# Altium schematic symbol library Altium-OPTO.SchLib: 28 symbols
Pins are listed as number, name and electrical type; pins without a type are passive.

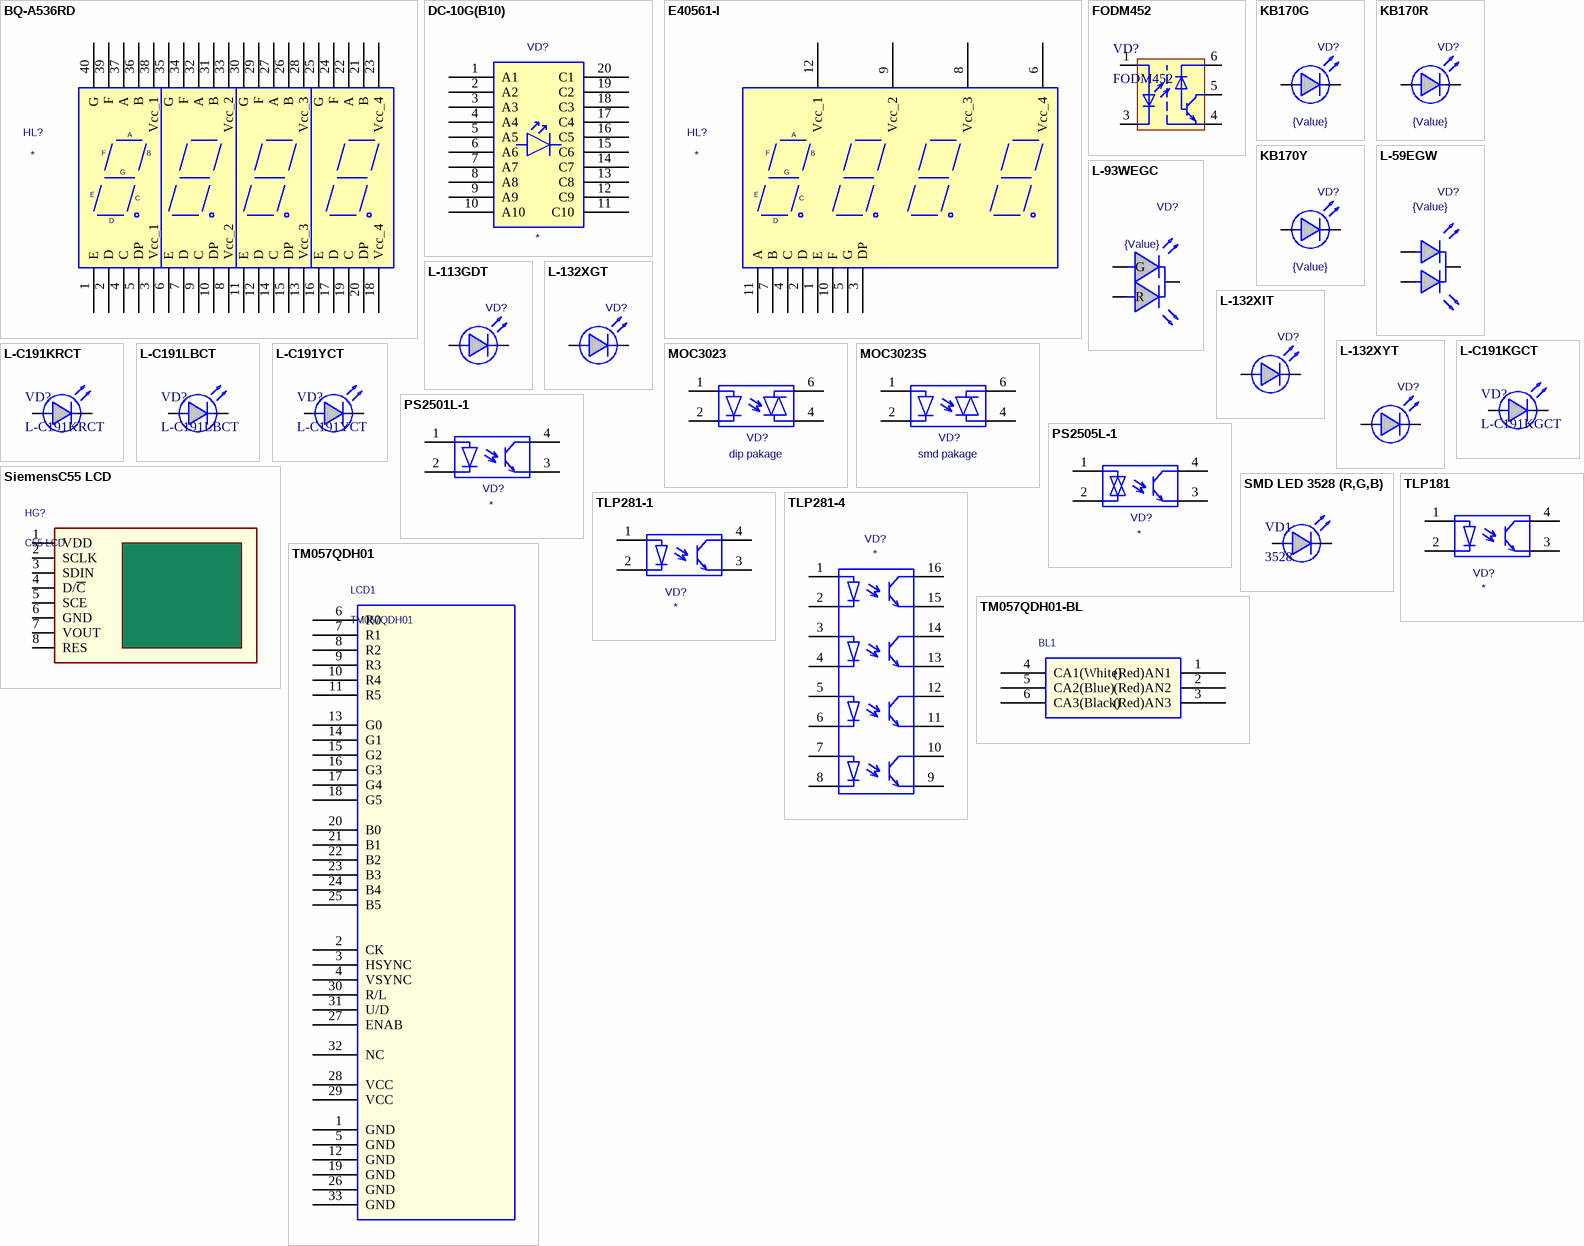
[diagram p0: symbols BQ-A536RD to TM057QDH01-BL]

## BQ-A536RD
designator HL?
4x7SEG Led; Value: *
footprint BQ-A536RD
pins: 1 E, 2 D, 3 Vcc_1, 4 C, 5 DP, 6 E, 7 D, 8 Vcc_2, 9 C, 10 DP, 11 E, 12 D, 13 Vcc_3, 14 C, 15 DP, 16 E, 17 D, 18 Vcc_4, 19 C, 20 DP, 21 B, 22 A, 23 Vcc_4, 24 F, 25 G, 26 B, 27 A, 28 Vcc_3, 29 F, 30 G, 31 B, 32 A, 33 Vcc_2, 34 F, 35 G, 36 B, 37 A, 38 Vcc_1, 39 F, 40 G

## DC-10G(B10)
designator VD?
LED Light bar x10
footprint DC-10LED
pins: 1 A1, 2 A2, 3 A3, 4 A4, 5 A5, 6 A6, 7 A7, 8 A8, 9 A9, 10 A10, 11 C10, 12 C9, 13 C8, 14 C7, 15 C6, 16 C5, 17 C4, 18 C3, 19 C2, 20 C1

## E40561-I
designator HL?
4x7SEG Led, common anode
footprint E40561-I (Footprint not found)
pins: 1 E, 2 D, 3 DP, 4 C, 5 G, 6 Vcc_4, 7 B, 8 Vcc_3, 9 Vcc_2, 10 F, 11 A, 12 Vcc_1

## FODM452
designator VD?
DC Input Hi Speed Optocoupler
footprint MF-5 (5-pin mini flat package)
pins: 1, 3, 4, 5, 6

## KB170G
designator VD?  value {Value}  (hidden comment: *)
Green Led 0805
footprint LED-2012[0805]
pins: 1 K, 2 A

## KB170R
designator VD?  value {Value}  (hidden comment: *)
Red Led 0805
footprint LED-2012[0805]
pins: 1 K, 2 A

## KB170Y
designator VD?  value {Value}  (hidden comment: *)
Yellow Led 0805
footprint LED-2012[0805]
pins: 1 K, 2 A

## L-59EGW
designator VD?  value {Value}  (hidden comment: *)
3-Color Led d=5mm
footprint LED2C-5MM
pins: 1 A, 2 K, 3 A

## L-93WEGC
designator VD?  value {Value}  (hidden comment: *)
3-Color Led d=3mm
footprint LED2C-3MM
pins: 1 R, 2 K, 3 G

## L-113GDT
designator VD?  (value not drawn)
Green Led 2x5mm
footprint LED-113 (2x5mm rectangle)
pins: 1 K, 2 A

## L-132XGT
designator VD?  (value not drawn)
Green Led d=3mm
footprint LED-132
pins: 1 K, 2 A

## L-132XIT
designator VD?  (value not drawn)
Red Led d=3mm
footprint LED-132
pins: 1 K, 2 A

## L-132XYT
designator VD?  (value not drawn)
Yellow Led d=3mm
footprint LED-132
pins: 1 K, 2 A

## L-C191KGCT
designator VD?
0603 Green Led
footprint LED-0603
pins: 1 K, 2 A

## L-C191KRCT
designator VD?
0603 Red Led
footprint LED-0603
pins: 1 K, 2 A

## L-C191LBCT
designator VD?
0603 Blue Led
footprint LED-0603
pins: 1 K, 2 A

## L-C191YCT
designator VD?
0603 Yellow Led
footprint LED-0603
pins: 1 K, 2 A

## MOC3023
designator VD?, comment dip pakage
DC Input Photocoupler
footprint DIP6
pins: 1, 2, 4, 6

## MOC3023S
designator VD?, comment smd pakage
DC Input Photocoupler
footprint DIP6(SM) (Surface Mount)
footprint DIP6(SM) - NT (Surface Mount)
pins: 1, 2, 4, 6

## PS2501L-1
designator VD?
DC Input Photocoupler; Value: *
footprint DIP4(SM) (Footprint not found)
pins: 1, 2, 3, 4

## PS2505L-1
designator VD?
AC Input Photocoupler
footprint DIP4(SM) (Footprint not found)
pins: 1, 2, 3, 4

## SiemensC55 LCD
designator HG?, comment C55 LCD
monochrome LCD display 101x63 dots (SPI interface)
footprint C55 LCD (monochrome LCD display 101x63 dots)
pins: 1 VDD, 2 SCLK, 3 SDIN, 4 D/~{C}, 5 SCE, 6 GND, 7 VOUT, 8 RES

## SMD LED 3528 (R,G,B)
designator VD1, comment 3528
Single SMD 3528 LED
footprint SMD LED 3528 (Single SMD LED 3528)
pins: 1 K, 2 A

## TLP181
designator VD?
DC Input Photocoupler; Value: *
footprint MCF4
pins: 1, 2, 3, 4

## TLP281-1
designator VD?
DC Input Photocoupler; Value: *
footprint SO-G4
pins: 1, 2, 3, 4

## TLP281-4
designator VD?
4x DC Input Photocoupler; Value: *
footprint SO-G16
pins: 1, 2, 3 1, 4 2, 5 1, 6 2, 7 1, 8 2, 9 3, 10 4, 11 3, 12 4, 13 3, 14 4, 15 3, 16 4

## TM057QDH01
designator LCD1
640x480 LCD module, RGB 18bit
footprint FH12-33S-0.5SH(55) (0.5mm pitch connector for FPC/FFC)
pins: 1 GND, 2 CK, 3 HSYNC, 4 VSYNC, 5 GND, 6 R0, 7 R1, 8 R2, 9 R3, 10 R4, 11 R5, 12 GND, 13 G0, 14 G1, 15 G2, 16 G3, 17 G4, 18 G5, 19 GND, 20 B0, 21 B1, 22 B2, 23 B3, 24 B4, 25 B5, 26 GND, 27 ENAB, 28 VCC, 29 VCC, 30 R/L, 31 U/D, 32 NC, 33 GND

## TM057QDH01-BL
designator BL1
Backlight LEDs
footprint SM06B-SHLS-TF (1.0mm pitch/Disconnectable Crimp style connectors)
pins: 1 (Red)AN1, 2 (Red)AN2, 3 (Red)AN3, 4 CA1(White), 5 CA2(Blue), 6 CA3(Black)